# Altium footprint library LEDs.PcbLib: 4 footprints
Each footprint in its own frame and in the unit in brackets; x right, y up, seen from the top. Pads: shape width x height; smd on the part's side, far side on the other; paste and mask are expansions set on the pad; w line width, h text height; cw(c..) or ccw(c..) is an arc to the next point about the centre after c.
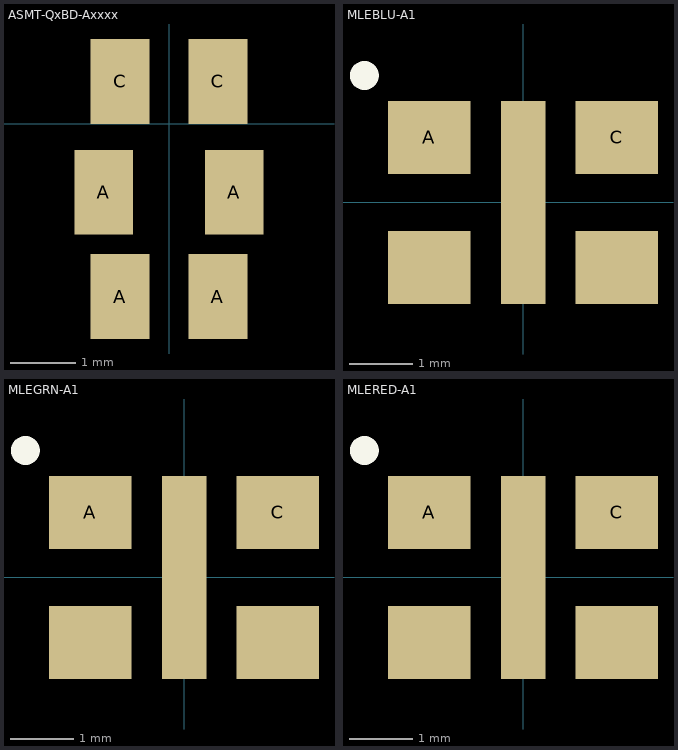
[diagram p0: the footprints below, top view; thin cyan lines are the x and y axes]

## ASMT-QxBD-Axxxx [mm]
pads (6):
  rect 0.9x1.3 smd: A(-1,-1.05) A(-0.75,-2.65) A(0.75,-2.65) A(1,-1.05) C(-0.75,0.65) C(0.75,0.65)

## MLEBLU-A1 [mm]
pads (5):
  rect 1.3x1.15 smd: A(-1.475,1.025) C(1.475,1.025) ""(-1.475,-1.025) ""(1.475,-1.025)
  rect 0.7x3.2 smd: ""(0,0)
Top Overlay:
  circle w0.254: c-2.5,2 r0.1

## MLEGRN-A1 [mm]
pads (5):
  rect 1.3x1.15 smd: A(-1.475,1.025) C(1.475,1.025) ""(-1.475,-1.025) ""(1.475,-1.025)
  rect 0.7x3.2 smd: ""(0,0)
Top Overlay:
  circle w0.254: c-2.5,2 r0.1

## MLERED-A1 [mm]
pads (5):
  rect 1.3x1.15 smd: A(-1.475,1.025) C(1.475,1.025) ""(-1.475,-1.025) ""(1.475,-1.025)
  rect 0.7x3.2 smd: ""(0,0)
Top Overlay:
  circle w0.254: c-2.5,2 r0.1